# EAGLE library part MJ3225-88-0 (library con-gct-rj45)
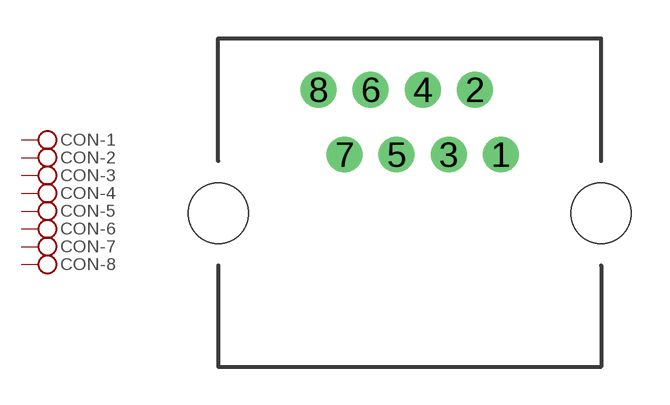
[diagram p0: symbol with the pads of MJ3225-88-0; footprint MJ3225-88-0]

Designator prefix CON; gates -1=PIN -2=PIN -3=PIN -4=PIN -5=PIN -6=PIN -7=PIN -8=PIN

## MJ3225-88-0  [MJ3225-88-0]
1  -1:P$1
2  -2:P$1
3  -3:P$1
4  -4:P$1
5  -5:P$1
6  -6:P$1
7  -7:P$1
8  -8:P$1

## Footprint MJ3225-88-0 (pad centres in mm)
drill 0.9: 1 3.57,2.3; 2 2.55,4.84; 3 1.53,2.3; 4 0.51,4.84; 5 -0.51,2.3; 6 -1.53,4.84; 7 -2.55,2.3; 8 -3.57,4.84
hole 2.36 at -7.5,0
hole 2.36 at 7.5,0